# Altium footprint library RLC.PcbLib: 27 footprints (part 2 of 2)
Each footprint in its own frame and in the unit in brackets; x right, y up, seen from the top. Pads: shape width x height; smd on the part's side, far side on the other; paste and mask are expansions set on the pad; w line width, h text height; cw(c..) or ccw(c..) is an arc to the next point about the centre after c.
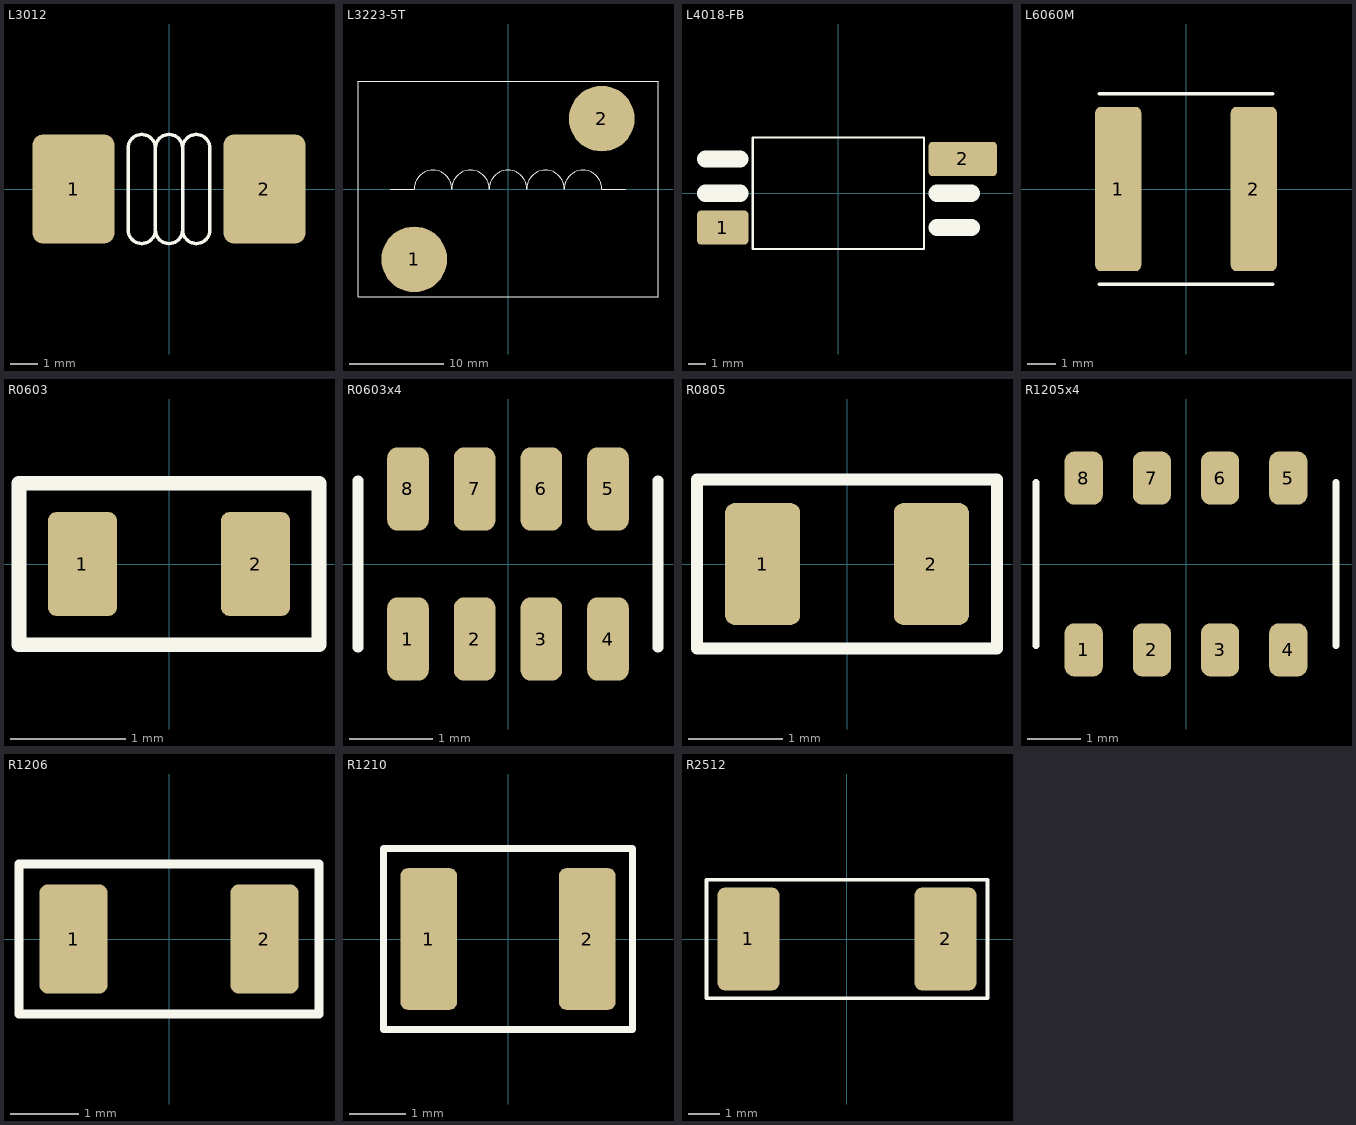
[diagram p1: the footprints below, top view; thin cyan lines are the x and y axes]

## L3012 [mm] "SMT INDUCTOR 3012"
pads (2):
  rrect25% 3x4 smd: 1(-3.5,0) 2(3.5,0)
Top Overlay:
  lines w0.127: -0.5,-1.5 cw(c-1,-1.5) -1,-2 cw(c-1,-1.5) -1.5,-1.5 -1.5,1.5 cw(c-1,1.5) -1,2 cw(c-1,1.5) -0.5,1.5 ; -0.5,-1.5 ccw(c0,-1.5) 0,-2 ccw(c0,-1.5) 0.5,-1.5 ; -0.5,-1.5 -0.5,1.5 ; -0.5,1.5 cw(c0,1.5) 0,2 cw(c0,1.5) 0.5,1.5 ; -0.5,1.5 -0.5,1.5 ; 0.5,-1.5 ccw(c1,-1.5) 1,-2 ; 0.5,-1.5 0.5,1.5 ; 0.5,1.5 cw(c1,1.5) 1,2 ; 1,-2 ccw(c1,-1.5) 1.5,-1.5 1.5,1.5 ccw(c1,1.5) 1,2 ; 1,-2 1,-2 ; 1,2 1,2

## L3223-5T [mm] "SMT INDUCTOR 3223 - 5T"
pads (2):
  round 7 smd: 1(-10,-7.5) 2(10,7.5)
Top Overlay:
  lines w0.127: -12.5,0 -10,0 cw(c-8,0) -6,0 cw(c-4,0) -2,0 cw(c0,0) 2,0 cw(c4,0) 6,0 cw(c8,0) 10,0 12.5,0 ; -16,-11.5 16,-11.5 16,11.5 -16,11.5 -16,-11.5

## L4018-FB [mm] "SMT INDUCTOR 4018"
pads (2):
  rrect25% 3x2 smd: 1(-6.75,-2)
  rrect25% 4x2 smd: 2(7.25,2)
Top Overlay:
  lines w0.127: -5,-3.25 -5,3.25 5,3.25 5,-3.25 -5,-3.25
  lines w1: -7.75,0 -5.75,0 ; -7.75,2 -5.75,2 ; 5.75,-2 7.75,-2 ; 5.75,0 7.75,0

## L6060M [mm] "SMT INDUCTOR 6.0mm x 6.0 mm"
height 1.25
pads (2):
  rrect25% 1.6x5.7 smd: 1(-2.35,0) 2(2.35,0)
Top Overlay:
  lines w0.127: -3,-3.3 3,-3.3 ; -3,3.3 3,3.3
3D body "L6060M.STEP": height 2.81, standoff -0.05, extent -3,-3 3,3

## R0603 [mm] "SMD RESISTOR 0603"
height 1.25
pads (2):
  rrect25% 0.6x0.9 smd: 1(-0.75,0) 2(0.75,0)
Top Overlay:
  lines w0.127: -1.3,-0.7 1.3,-0.7 1.3,0.7 -1.3,0.7 -1.3,-0.7
3D body "R0603.STEP": height 0.56, standoff 0, extent -0.85,-0.4 0.85,0.4

## R0603x4 [mm] "SMD RESISTOR PACK - 1206 - 0603x4"
height 1.25
pads (8):
  rrect50% 0.5x1 smd: 1(-1.2,-0.9) 2(-0.4,-0.9) 3(0.4,-0.9) 4(1.2,-0.9) 5(1.2,0.9) 6(0.4,0.9) 7(-0.4,0.9) 8(-1.2,0.9)
Top Overlay:
  lines w0.127: -1.8,-1 -1.8,1 ; 1.8,-1 1.8,1
3D body "R0603x4-1206.STEP": height 0.5, standoff 0, extent -1.6,-0.8 1.6,0.8

## R0805 [mm] "SMD RESISTOR 0805"
height 0.032
pads (2):
  rrect25% 0.8x1.3 smd: 1(-0.9,0) 2(0.9,0)
Top Overlay:
  lines w0.127: -1.6,-0.9 -1.6,0.9 1.6,0.9 1.6,-0.9 -1.6,-0.9
3D body "R0805.STEP": height 0.45, standoff 0, extent -1,-0.625 1,0.625

## R1205x4 [mil] "SMD RESISTOR PACK - 2012 - 1205x4"
pads (8):
  rrect50% 28x39 smd: 1(-75,-63) 2(-25,-63) 3(25,-63) 4(75,-63) 5(75,63) 6(25,63) 7(-25,63) 8(-75,63)
Top Overlay:
  lines w5: -110,-60 -110,60 ; 110,-60 110,60
3D body "R1205x4-2012.STEP": height 16.97, standoff 2.2, extent -100,-43 100,43.61

## R1206 [mm] "SMD RESISTOR 1206"
height 1.25
pads (2):
  rrect25% 1x1.6 smd: 1(-1.4,0) 2(1.4,0)
Top Overlay:
  lines w0.127: -2.2,-1.1 2.2,-1.1 2.2,1.1 -2.2,1.1 -2.2,-1.1
3D body "R1206.STEP": height 0.54, standoff -0.01, extent -1.54,-0.8 1.659,0.8

## R1210 [mm] "SMD RESISTOR 1210"
pads (2):
  rrect25% 1x2.5 smd: 1(-1.4,0) 2(1.4,0)
Top Overlay:
  lines w0.127: -2.2,-1.6 2.2,-1.6 2.2,1.6 -2.2,1.6 -2.2,-1.6
3D body "R1210.STEP": height 0.55, standoff 0, extent -1.6,-1.25 1.6,1.25

## R2512 [mm] "SMD RESISTOR 2512"
pads (2):
  rrect25% 2x3.3 smd: 1(-3.159,0) 2(3.16,0)
Top Overlay:
  lines w0.127: -4.5,-1.9 4.5,-1.9 4.5,1.9 -4.5,1.9 -4.5,-1.9
3D body "R2512.STEP": height 0.62, standoff 0, extent -3.159,-1.6 3.16,1.6